# EAGLE library part TPS781 (library Tutorial)
Dual, 200mA Output, Low Noise, High PSRR Low-Dropout Linear Regulators
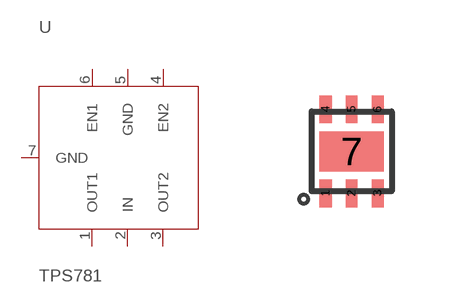
[diagram p0: symbol with the pads of PWSON-6; footprint PWSON-6]

Designator prefix -

## TPS781  [PWSON-6]
1  OUT1
2  IN
3  OUT2
4  EN2
5  GND
6  EN1
7  GND

## Footprint PWSON-6 (pad centres in mm)
smd 0.3 x 0.7: 1 -0.65,-1.05; 2 0,-1.05; 3 0.65,-1.05; 4 -0.65,1.05; 5 0,1.05; 6 0.65,1.05
smd 1.6 x 1: 7 0,0